# Altium footprint library PcbLib2.PcbLib: 2 footprints
Each footprint in its own frame and in the unit in brackets; x right, y up, seen from the top. Pads: shape width x height; smd on the part's side, far side on the other; paste and mask are expansions set on the pad; w line width, h text height; cw(c..) or ccw(c..) is an arc to the next point about the centre after c.
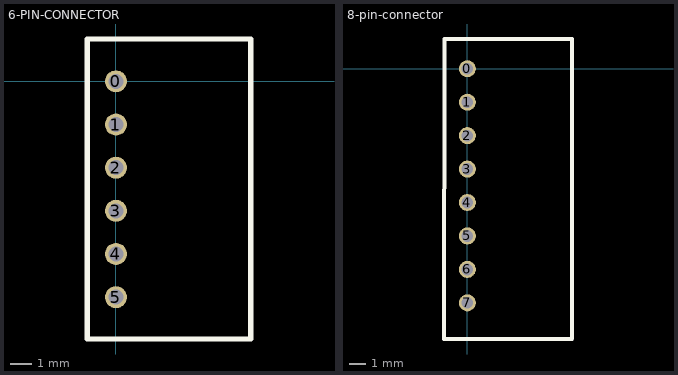
[diagram p0: the footprints below, top view; thin cyan lines are the x and y axes]

## 6-PIN-CONNECTOR [mil] "J"
pads (6):
  round 40 hole 27.56: 0(0,-0.49) 1(0,-79.23) 2(0,-157.97) 3(0,-236.71) 4(0,-315.45) 5(0,-394.19)
Top Overlay:
  lines w10: -52.63,-470.53 -52.63,76.77 246.06,76.77 246.06,-470.53 -52.63,-470.53

## 8-pin-connector [mil]
pads (8):
  round 40 hole 27.56: 0(0,0) 1(0,-78.74) 2(0,-157.48) 3(0,-236.22) 4(0,-314.96) 5(0,-393.7) 6(0,-472.44) 7(0,-551.18)
Top Overlay:
  lines w10: -55.28,-636.28 -53.98,70 0,70 246.06,70 246.57,-635.89 -53.98,-636.28